# EAGLE library part BS62LV4006 (library memory-bsi)
512K x 8 BIT CMOS SRAM very low power
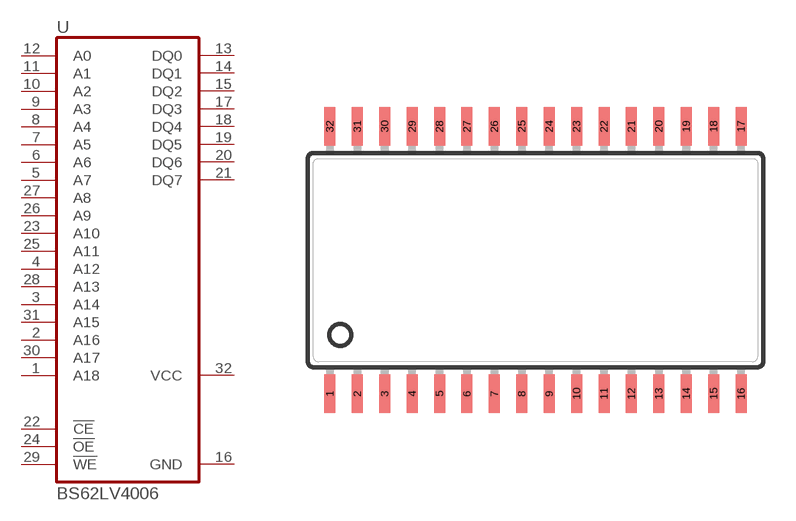
[diagram p0: symbol with the pads of TSOP-II-32; footprint TSOP-II-32]

Designator prefix U

## BS62LV4006  [TSOP-II-32]
1  A18  in
2  A16  in
3  A14  in
4  A12  in
5  A7  in
6  A6  in
7  A5  in
8  A4  in
9  A3  in
10  A2  in
11  A1  in
12  A0  in
13  DQ0
14  DQ1
15  DQ2
16  GND  pwr
17  DQ3
18  DQ4
19  DQ5
20  DQ6
21  DQ7
22  !CE!  in
23  A10  in
24  !OE!  in
25  A11  in
26  A9  in
27  A8  in
28  A13  in
29  !WE!  in
30  A17  in
31  A15  in
32  VCC  pwr

## Footprint TSOP-II-32 (pad centres in mm)
TSOP II - 32
smd 0.508 x 1.778: 1 -9.525,-6.199; 2 -8.255,-6.199; 3 -6.985,-6.199; 4 -5.715,-6.199; 5 -4.445,-6.199; 6 -3.175,-6.199; 7 -1.905,-6.199; 8 -0.635,-6.199; 9 0.635,-6.199; 10 1.905,-6.199; 11 3.175,-6.199; 12 4.445,-6.199; 13 5.715,-6.199; 14 6.985,-6.199; 15 8.255,-6.199; 16 9.525,-6.199; 17 9.525,6.199; 18 8.255,6.199; 19 6.985,6.199; 20 5.715,6.199; 21 4.445,6.199; 22 3.175,6.199; 23 1.905,6.199; 24 0.635,6.199; 25 -0.635,6.199; 26 -1.905,6.199; 27 -3.175,6.199; 28 -4.445,6.199; 29 -5.715,6.199; 30 -6.985,6.199; 31 -8.255,6.199; 32 -9.525,6.199